# Altium schematic symbol library AP7368.SchLib: 1 symbol
Pins are listed as number, name and electrical type; pins without a type are passive.

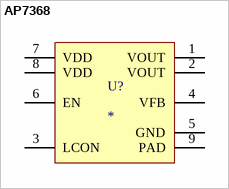
[diagram p0: symbol AP7368]

## AP7368
designator U?
pins: 1 VOUT, 2 VOUT, 3 LCON, 4 VFB, 5 GND, 6 EN, 7 VDD, 8 VDD, 9 PAD